# EAGLE library part LSF0102 (library Eagle_CAD_parts)
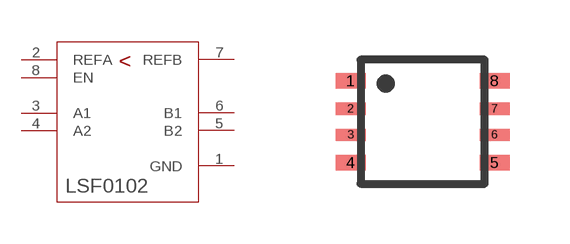
[diagram p90: symbol with the pads of SOT505-2; footprint SOT505-2]

Designator prefix U

## LSF0102DP (DIGIKEY_PART_NUMBER: 1727-LSF0102DPHCT-ND; MANUFACTURER_PART_NUMBER: LSF0102DPH)  [SOT505-2]
1  GND  pwr
2  REFA  pwr
3  A1
4  A2
5  B2
6  B1
7  REFB  pwr
8  EN  out

## Footprint SOT505-2 (pad centres in mm)
smd 0.75 x 0.4: 1 -1.8,1.025; 4 -1.8,-1.025; 5 1.8,-1.025; 8 1.8,1.025
smd 0.75 x 0.3: 2 -1.8,0.325; 3 -1.8,-0.325; 6 1.8,-0.325; 7 1.8,0.325